# EAGLE library part 50224-017 (library con-aces-50224-series)
ACES CONNECTORS 50224 SERIES Aces Connectors 50224 <https://www.acesconn.com/tw/series/50224-xxxxx-xxx/3165>
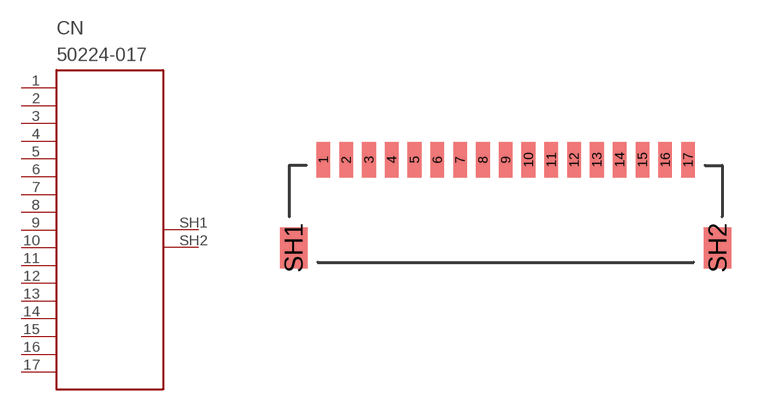
[diagram p13: symbol with the pads of 50224-017; footprint 50224-017]

Designator prefix CN

## 50224-017  [50224-017]
1  1
2  2
3  3
4  4
5  5
6  6
7  7
8  8
9  9
10  10
11  11
12  12
13  13
14  14
15  15
16  16
17  17
SH1  SH1
SH2  SH2

## Footprint 50224-017 (pad centres in mm)
smd 0.6 x 1.55: 1 -8,0; 2 -7,0; 3 -6,0; 4 -5,0; 5 -4,0; 6 -3,0; 7 -2,0; 8 -1,0; 9 0,0; 10 1,0; 11 2,0; 12 3,0; 13 4,0; 14 5,0; 15 6,0; 16 7,0; 17 8,0
smd 1.2 x 1.8: SH1 -9.3,-3.875; SH2 9.3,-3.875